# Altium schematic symbol library 1N4007G.SchLib: 1 symbol
Pins are listed as number, name and electrical type; pins without a type are passive.

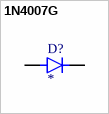
[diagram p0: symbol 1N4007G]

## 1N4007G
designator D?
MF: {'manufacturer': u'ON Semiconductor'}; MP: 1N4007G; Price: None; Availability: Unavailable; Value: *; Package: None
footprint DIOAD1036W78L470D235
pins: A, C K